# EAGLE library part CY7C1049D-10VXI (library CY8C5888LTI-LP097)
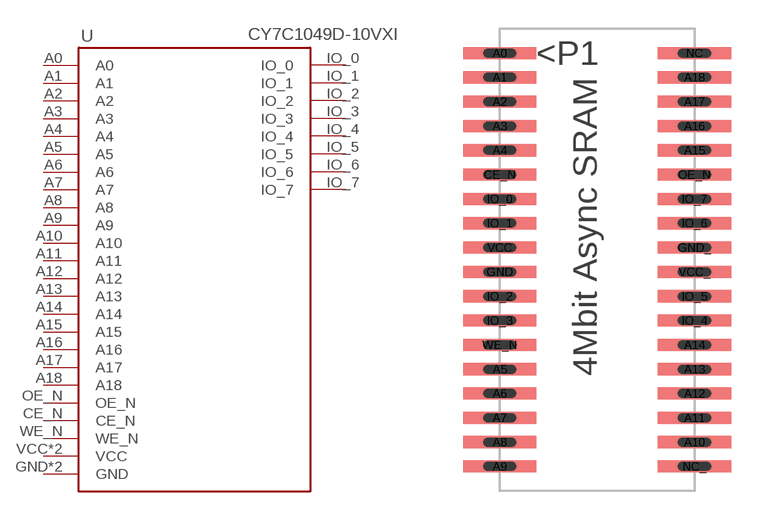
[diagram p0: symbol with the pads of SOJ36; footprint SOJ36]

Designator prefix -

## CY7C1049D-10VXI  [SOJ36]
A0  A0  in
A1  A1  in
A2  A2  in
A3  A3  in
A4  A4  in
A5  A5  in
A6  A6  in
A7  A7  in
A8  A8  in
A9  A9  in
A10  A10  in
A11  A11  in
A12  A12  in
A13  A13  in
A14  A14  in
A15  A15  in
A16  A16  in
A17  A17  in
A18  A18  in
CE_N  CE_N  in
GND  GND  pwr
GND_  GND  pwr
IO_0  IO_0
IO_1  IO_1
IO_2  IO_2
IO_3  IO_3
IO_4  IO_4
IO_5  IO_5
IO_6  IO_6
IO_7  IO_7
OE_N  OE_N  in
VCC  VCC  pwr
VCC_  VCC  pwr
WE_N  WE_N  in

## Footprint SOJ36 (pad centres in mm)
smd 3.81 x 0.635: A0 1.27,22.86; A1 1.27,21.59; A2 1.27,20.32; A3 1.27,19.05; A4 1.27,17.78; A5 1.27,6.35; A6 1.27,5.08; A7 1.27,3.81; A8 1.27,2.54; A9 1.27,1.27; A10 11.43,2.54; A11 11.43,3.81; A12 11.43,5.08; A13 11.43,6.35; A14 11.43,7.62; A15 11.43,17.78; A16 11.43,19.05; A17 11.43,20.32; A18 11.43,21.59; CE_N 1.27,16.51; GND 1.27,11.43; GND_ 11.43,12.7; IO_0 1.27,15.24; IO_1 1.27,13.97; IO_2 1.27,10.16; IO_3 1.27,8.89; IO_4 11.43,8.89; IO_5 11.43,10.16; IO_6 11.43,13.97; IO_7 11.43,15.24; NC 11.43,22.86; NC_ 11.43,1.27; OE_N 11.43,16.51; VCC 1.27,12.7; VCC_ 11.43,11.43; WE_N 1.27,7.62